# Altium footprint library Footprints.PcbLib: 21 footprints (part 1 of 2)
Each footprint in its own frame and in the unit in brackets; x right, y up, seen from the top. Pads: shape width x height; smd on the part's side, far side on the other; paste and mask are expansions set on the pad; w line width, h text height; cw(c..) or ccw(c..) is an arc to the next point about the centre after c.
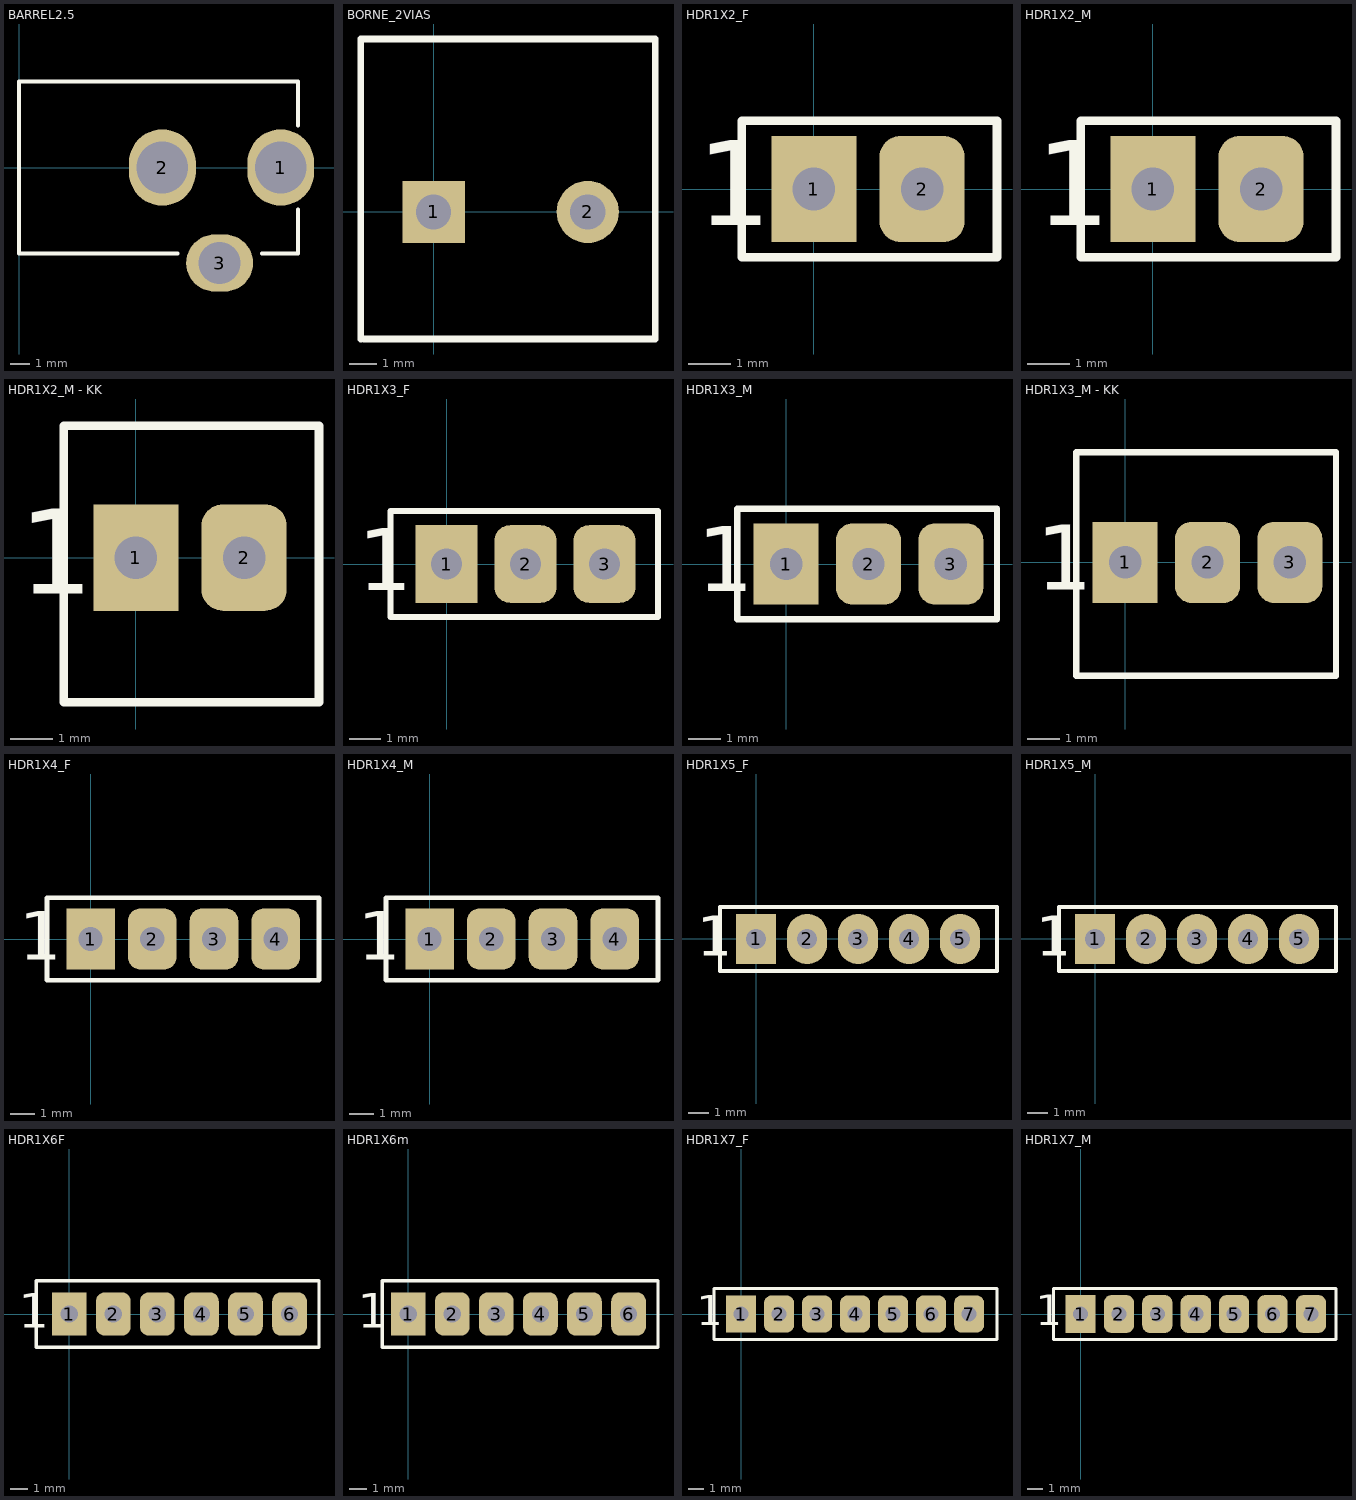
[diagram p0: the footprints below, top view; thin cyan lines are the x and y axes]

## BARREL2.5 [mm] "DC Power Jack, 2.5mm, KLD Series, PCB Mount"
height 11
pads (3):
  oval 3.5x4 hole 2.7: 1(13.7,0) 2(7.5,0)
  oval 3.5x3 hole 2.2: 3(10.5,-5)
Top Overlay:
  lines w0.2: 8.3,-4.5 0,-4.5 0,4.5 14.6,4.5 14.6,2.2 ; 12.7,-4.5 14.6,-4.5 14.6,-2.2
3D body: height 5, standoff -0.05, extent 2.223,-4.445 14.54,4.5
3D body: height 10.5, standoff 1.5, extent 2.54,-4.445 14.54,4.555
3D body: height 11, standoff -0.05, extent 0,-4.445 3.175,4.555

## BORNE_2VIAS [mm]
pads (2):
  rect 2.3x2.3 hole 1.3: 1(0,0)
  round 2.3 hole 1.3: 2(5.7,0)
Top Overlay:
  lines w0.254: -2.7,-4.7 -2.7,6.4 8.2,6.4 8.2,-4.7 5.35,-4.7 0.05,-4.7 -2.6,-4.7
3D body "TBlock2vias - KRE.STEP": height 14.8, standoff -3.2, extent -2.2,-4.3 7.8,6.1

## HDR1X2_F [mm] "Connector; Header; 2 Position"
pads (2):
  rect 2x2.5 hole 1: 1(0,0)
  rrect50% 2x2.5 hole 1: 2(2.54,0)
Top Overlay:
  lines w0.2: -1.7,-1.6 -1.7,1.6 4.3,1.6 4.3,-1.6 -1.7,-1.6
  text "1" at -2.746,-0.846 h2
3D body "2-Pin Header - Female - 2.54mm.step": height 5, standoff -3, extent -1.52,-1.25 4.06,1.25

## HDR1X2_M [mm] "Connector; Header; 2 Position"
pads (2):
  rect 2x2.5 hole 1: 1(0,0)
  rrect50% 2x2.5 hole 1: 2(2.54,0)
Top Overlay:
  lines w0.2: -1.7,-1.6 4.3,-1.6 4.3,1.6 -1.7,1.6 -1.7,-1.6
  text "1" at -2.746,-0.846 h2
3D body "1x2 Male Pin Header.STEP": height 2, standoff -11.54, extent -1.27,-1.25 3.815,1.25

## HDR1X2_M - KK [mm] "Connector; Header; 2 Position"
pads (2):
  rect 2x2.5 hole 1: 1(0,0)
  rrect50% 2x2.5 hole 1: 2(2.54,0)
Top Overlay:
  lines w0.2: -1.7,-3.4 4.3,-3.4 4.3,3.1 -1.7,3.1 -1.7,-3.4
  text "1" at -2.746,-0.846 h2
3D body "User Library-molex kk 0_1in latching 2 way vertical header.step": height 12.1, standoff -3.14, extent -1.24,-3.072 3.84,2.77

## HDR1X3_F [mm] "Connector; Header; 3 Position"
pads (3):
  rect 2x2.5 hole 1: 1(0,0)
  rrect50% 2x2.5 hole 1: 2(2.54,0) 3(5.08,0)
Top Overlay:
  lines w0.2: -1.8,-1.7 -1.8,1.7 6.8,1.7 6.8,-1.7 -1.8,-1.7
  text "1" at -2.846,-0.846 h2
3D body "3-Pin Header - Female - 2.54mm.step": height 5, standoff -3, extent -1.52,-1.25 6.6,1.25

## HDR1X3_M [mm] "Connector; Header; 3 Position"
pads (3):
  rect 2x2.5 hole 1: 1(0,0)
  rrect50% 2x2.5 hole 1: 2(2.54,0) 3(5.08,0)
Top Overlay:
  lines w0.2: -1.5,-1.7 6.5,-1.7 6.5,1.7 -1.5,1.7 -1.5,-1.7
  text "1" at -2.746,-0.846 h2
3D body "1x3 Male Pin Header.STEP": height 2, standoff -11.54, extent -1.312,-1.3 6.313,1.2

## HDR1X3_M - KK [mm] "Connector; Header; 3 Position"
pads (3):
  rect 2x2.5 hole 1: 1(0,0)
  rrect50% 2x2.5 hole 1: 2(2.54,0) 3(5.08,0)
Top Overlay:
  lines w0.2: -1.5,-3.5 -1.5,3.4 6.5,3.4 6.5,-3.5 -1.5,-3.5
  text "1" at -2.746,-0.846 h2
3D body "22-23-5034.stp": height 11.08, standoff -3.15, extent -1.205,-3.23 6.285,3.12

## HDR1X4_F [mm] "Connector; Header; 4 Position"
pads (4):
  rect 2x2.5 hole 1: 1(0,0)
  rrect50% 2x2.5 hole 1: 2(2.54,0) 3(5.08,0) 4(7.62,0)
Top Overlay:
  lines w0.2: -1.8,-1.7 9.4,-1.7 9.4,1.7 -1.8,1.7 -1.8,-1.7
  text "1" at -2.946,-0.846 h2
3D body "4-Pin Header - Female - 2.54mm.step": height 5.5, standoff -2.5, extent -1.53,-1.2 9.13,1.3

## HDR1X4_M [mm] "Connector; Header; 4 Position"
pads (4):
  rect 2x2.5 hole 1: 1(0,0)
  rrect50% 2x2.5 hole 1: 2(2.54,0) 3(5.08,0) 4(7.62,0)
Top Overlay:
  lines w0.2: -1.8,-1.7 9.4,-1.7 9.4,1.7 -1.8,1.7 -1.8,-1.7
  text "1" at -2.946,-0.846 h2
3D body "1x4 Male Pin Header.STEP": height 2, standoff -11.54, extent -1.27,-1.25 8.895,1.25

## HDR1X5_F [mm] "Connector; Header; 5 Position"
pads (5):
  rect 2x2.5 hole 1: 1(0,0)
  oval 2x2.5 hole 1: 2(2.54,0) 3(5.08,0) 4(7.62,0) 5(10.16,0)
Top Overlay:
  lines w0.2: -1.8,-1.6 -1.8,1.6 12,1.6 12,-1.6 -1.8,-1.6
  text "1" at -2.946,-0.846 h2
3D body "5-Pin Header - Female - 2.54mm.step": height 5.5, standoff -2.5, extent -1.52,-1.25 11.68,1.25

## HDR1X5_M [mm] "Connector; Header; 5 Position"
pads (5):
  rect 2x2.5 hole 1: 1(0,0)
  oval 2x2.5 hole 1: 2(2.54,0) 3(5.08,0) 4(7.62,0) 5(10.16,0)
Top Overlay:
  lines w0.2: -1.8,-1.6 12,-1.6 12,1.6 -1.8,1.6 -1.8,-1.6
  text "1" at -2.946,-0.846 h2
3D body "1x5 Male Pin Header.STEP": height 2, standoff -11.54, extent -1.272,-1.3 11.433,1.2

## HDR1X6F [mm] "Connector; Header; 6 Position"
pads (6):
  rect 2x2.5 hole 1: 1(0,0)
  rrect50% 2x2.5 hole 1: 2(2.54,0) 3(5.08,0) 4(7.62,0) 5(10.16,0) 6(12.7,0)
Top Overlay:
  lines w0.2: -1.9,-1.905 14.4,-1.905 14.4,1.905 -1.9,1.905 -1.9,-1.905
  text "1" at -2.9,-0.8 h2
3D body "6-Pin Header - Female - 2.54mm.step": height 5, standoff -3, extent -1.47,-1.2 14.27,1.3

## HDR1X6m [mm] "Connector; Header; 6 Position"
pads (6):
  rect 2x2.5 hole 1: 1(0,0)
  rrect50% 2x2.5 hole 1: 2(2.54,0) 3(5.08,0) 4(7.62,0) 5(10.16,0) 6(12.7,0)
Top Overlay:
  lines w0.2: -1.5,-1.905 14.4,-1.905 14.4,1.905 -1.5,1.905 -1.5,-1.905
  text "1" at -2.9,-0.8 h2
3D body "User Library-1x6 TH Pitch 2_54mm.step": height 2.2, standoff -10.5, extent -1.27,-1.27 13.97,1.27

## HDR1X7_F [mm] "Connector; Header; 7 Position"
pads (7):
  rect 2x2.5 hole 1: 1(0,0)
  rrect50% 2x2.5 hole 1: 2(2.54,0) 3(5.08,0) 4(7.62,0) 5(10.16,0) 6(12.7,0) 7(15.24,0)
Top Overlay:
  lines w0.2: -1.8,-1.7 17.1,-1.7 17.1,1.7 -1.8,1.7 -1.8,-1.7
  text "1" at -2.946,-0.746 h2
3D body "7-Pin Header - Female - 2.54mm.step": height 5, standoff -3, extent -1.52,-1.25 16.76,1.25

## HDR1X7_M [mm] "Connector; Header; 7 Position"
pads (7):
  rect 2x2.5 hole 1: 1(0,0)
  rrect50% 2x2.5 hole 1: 2(2.54,0) 3(5.08,0) 4(7.62,0) 5(10.16,0) 6(12.7,0) 7(15.24,0)
Top Overlay:
  lines w0.2: -1.8,-1.7 -1.8,1.7 16.9,1.7 16.9,-1.7 -1.8,-1.7
  text "1" at -2.946,-0.746 h2
3D body "1x7 Male Pin Header.STEP": height 2, standoff -11.54, extent -1.27,-1.25 16.515,1.25